# EAGLE library part 693030021610 (library EagleLibrary_Wuerth_Elektronik_eiCan_Communication_Connectors_v6_20150113)
WR-CRD Smart Card_Dual-way Header type_16 pins of Signal Contacts_2 pins of Switch Contatcs_ with Card Detection (Normally Closed)_Height above PCB 8.00mm=>Code : Con_I-O_COM_CRD_Smart_693030021610 <http://katalog.we-online.de/media/images/eican/Con_I-O_COM_CRD_Smart_693030021610_pf2.jpg> Details see: http://katalog.we-online.de/en/em/693_030_021_610 Created 2014-07-09, Karrer Zheng 2014 (C) Würth Elektronik
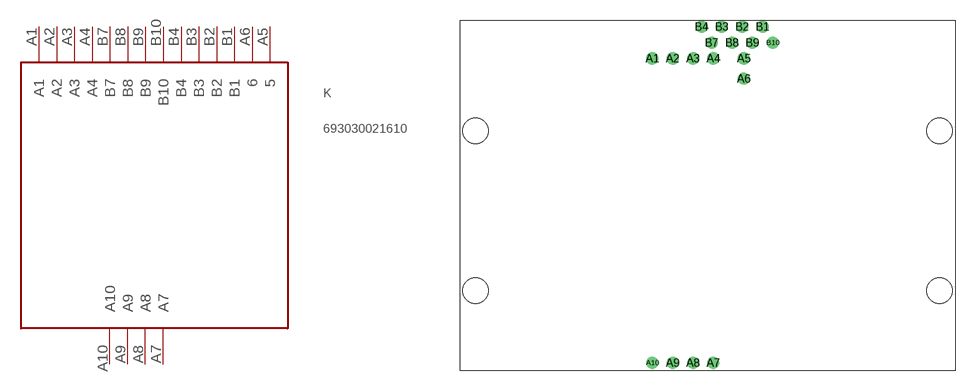
[diagram p143: symbol with the pads of 693030021610; footprint 693030021610]

Designator prefix K

## 693030021610  [693030021610]
A1  A1
A2  A2
A3  A3
A4  A4
A5  5
A6  6
A7  A7
A8  A8
A9  A9
A10  A10
B1  B1
B2  B2
B3  B3
B4  B4
B7  B7
B8  B8
B9  B9
B10  B10

## Footprint 693030021610 (pad centres in mm)
drill 1: A1 0,38.1; A2 2.54,38.1; A3 5.08,38.1; A4 7.62,38.1; A5 11.43,38.1; A6 11.43,35.56; A7 7.62,0; A8 5.08,0; A9 2.54,0; A10 0,0; B1 13.76,42.07; B2 11.22,42.07; B3 8.68,42.07; B4 6.14,42.07; B7 7.41,40.07; B8 9.95,40.07; B9 12.49,40.07; B10 15.03,40.07
hole 3.2 at 35.88,29.05
hole 3.2 at -22.12,29.05
hole 3.2 at -22.12,9.05
hole 3.2 at 35.88,9.05